# Altium footprint library PcbLib1.PcbLib: 9 footprints
Each footprint in its own frame and in the unit in brackets; x right, y up, seen from the top. Pads: shape width x height; smd on the part's side, far side on the other; paste and mask are expansions set on the pad; w line width, h text height; cw(c..) or ccw(c..) is an arc to the next point about the centre after c.
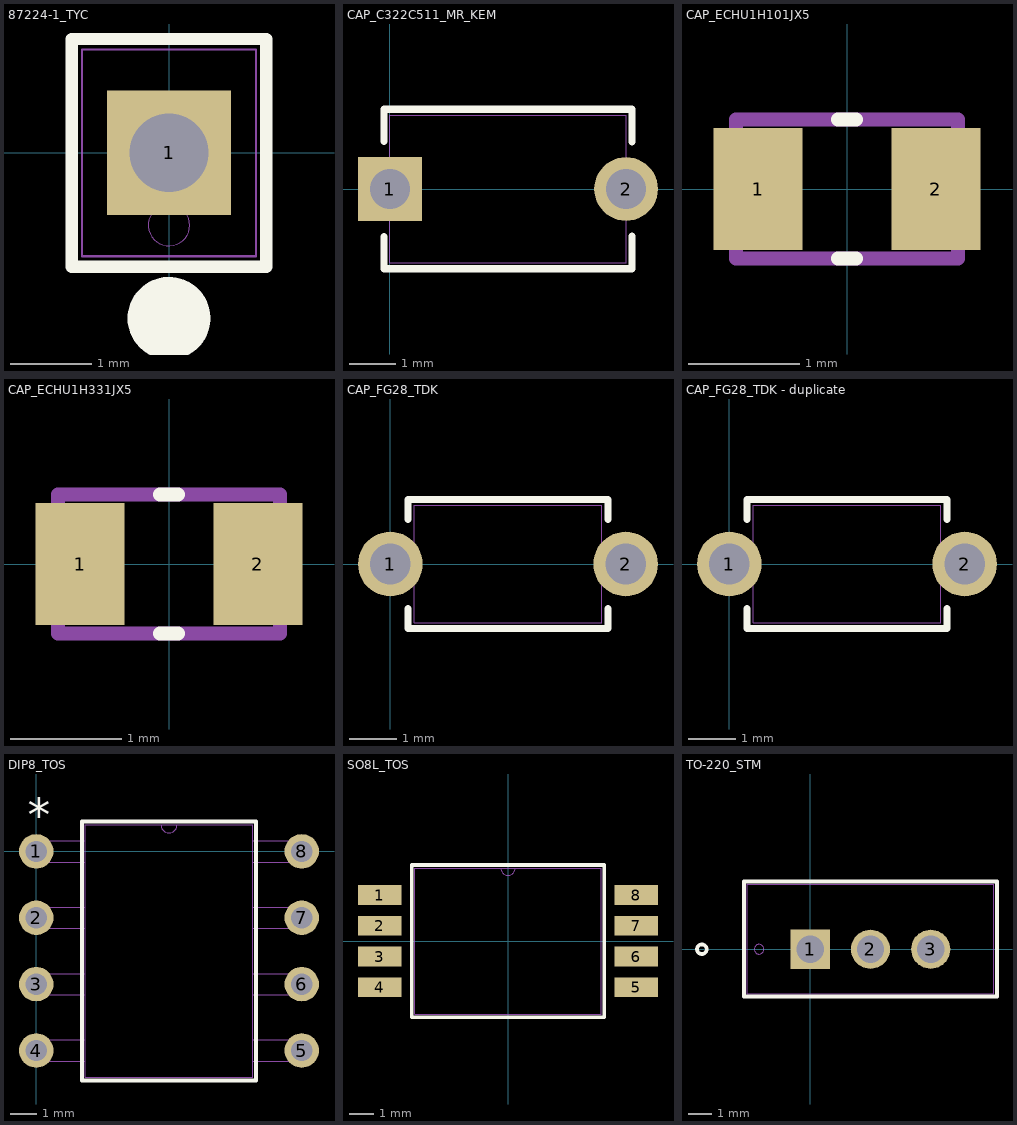
[diagram p0: the footprints below, top view; thin cyan lines are the x and y axes]

## 87224-1_TYC [mil]
pads (1):
  rect 60x60 / inner round 60 / far side rect 60x60 hole 38 paste-30 mask+0: 1(0,0)
Top Overlay:
  circle w20: c0,-80 r10
  lines w6: -47,-55 -47,55 47,55 47,-55 -47,-55
Mechanical 13:
  circle w0: c0,-35 r10
  lines w1: -42,-50 -42,50 42,50 42,-50 -42,-50
3D body "87224-1_TYC.step": height 90, standoff -200, extent -50,-50 50,50

## CAP_C322C511_MR_KEM [mil]
pads (2):
  rect 54x54 / inner round 60 / far side rect 54x54 hole 34 paste-27 mask+0: 1(0,0)
  round 54 / inner round 60 / far side round 54 hole 34 paste-27 mask+0: 2(200,0)
Top Overlay:
  lines w6: -5,-40.1 -5,-67.5 205,-67.5 205,-39.79 ; -5,40.1 -5,67.5 205,67.5 205,39.79
Mechanical 13:
  lines w1: 0,-62.5 0,62.5 200,62.5 200,-62.5 0,-62.5
3D body "C322C111JDG5TA.step": height 189.9, standoff -345.57, extent -10.04,-75.2 210.04,75

## CAP_ECHU1H101JX5 [mm]
height 0.9
pads (2):
  rect 0.8x1.1 smd: 1(-0.8,0) 2(0.8,0)
Top Overlay:
  lines w0.127: -0.08,-0.625 0.08,-0.625 ; -0.08,0.625 0.08,0.625
Mechanical 13:
  lines w0.127: -1,-0.625 1,-0.625 1,0.625 -1,0.625 -1,-0.625
3D body "step_temp.STEP": height 0.9, standoff 0, extent -1,-0.625 1,0.625

## CAP_ECHU1H331JX5 [mm]
pads (2):
  rect 0.8x1.1 smd: 1(-0.8,0) 2(0.8,0)
Top Overlay:
  lines w0.127: -0.08,-0.625 0.08,-0.625 ; -0.08,0.625 0.08,0.625
Mechanical 13:
  lines w0.127: -1,-0.625 -1,0.625 1,0.625 1,-0.625 -1,-0.625
3D body "step_temp.STEP": height 0.9, standoff 0, extent -1,-0.625 1,0.625

## CAP_FG28_TDK [mil]
pads (2):
  round 54 / inner round 60 / far side round 54 hole 34 paste-27 mask+0: 1(0,0) 2(196.85,0)
Top Overlay:
  lines w6: 14.93,-37.22 14.93,-54 181.93,-54 181.93,-37.22 ; 14.93,37.22 14.93,54 181.93,54 181.93,37.22
Mechanical 13:
  lines w1: 19.93,-49 19.93,49 176.93,49 176.93,-49 19.93,-49
3D body "CAP_FG28_TDK.step": height 217.01, standoff -172.01, extent -35.98,-49.02 208.86,49.02

## CAP_FG28_TDK - duplicate [mil]
pads (2):
  round 54 / inner round 60 / far side round 54 hole 34 paste-27 mask+0: 1(0,0) 2(196.85,0)
Top Overlay:
  lines w6: 14.93,-37.22 14.93,-54 181.93,-54 181.93,-37.22 ; 14.93,37.22 14.93,54 181.93,54 181.93,37.22
Mechanical 13:
  lines w1: 19.93,-49 19.93,49 176.93,49 176.93,-49 19.93,-49
3D body "CAP_FG28_TDK.step": height 217.01, standoff -172.01, extent -35.98,-49.02 208.86,49.02

## DIP8_TOS [mil]
pads (8):
  round 52 / inner round 60 / far side round 52 hole 32 paste-26 mask+0: 1(0,0) 2(0,-100) 3(0,-200) 4(0,-300) 5(400,-300) 6(400,-200) 7(400,-100) 8(400,0)
Top Overlay:
  lines w6: 69,-345 331,-345 331,45 69,45 69,-345
  text "*" at -12.5,31 h50
Mechanical 13:
  lines w0: 188,40 ccw(c200,40) 212,40
  lines w1: -16,-316 -16,-284 74,-284 74,-316 -16,-316 ; -16,-216 -16,-184 74,-184 74,-216 -16,-216 ; -16,-116 -16,-84 74,-84 74,-116 -16,-116 ; -16,-16 -16,16 74,16 74,-16 -16,-16 ; 74,-340 326,-340 326,40 74,40 74,-340 ; 326,-316 326,-284 416,-284 416,-316 326,-316 ; 326,-216 326,-184 416,-184 416,-216 326,-216 ; 326,-116 326,-84 416,-84 416,-116 326,-116 ; 326,-16 326,16 416,16 416,-16 326,-16
  text "*" at 71.5,-25 h50
3D body "DIP8_90deg.stp": height 175.08, standoff -98.55, extent 31.21,-340 368.79,40.31

## SO8L_TOS [mil]
pads (8):
  rect 71x32 smd paste+0 mask+0: 1(-208.66,75) 2(-208.66,25) 3(-208.66,-25) 4(-208.66,-75) 5(208.66,-75) 6(208.66,-25) 7(208.66,25) 8(208.66,75)
Top Overlay:
  lines w6: -156.5,-124 156.5,-124 156.5,124 -156.5,124 -156.5,-124
Mechanical 13:
  lines w0: -12,119 ccw(c0,119) 12,119
  lines w1: -151.5,-119 151.5,-119 151.5,119 -151.5,119 -151.5,-119
3D body "SO8L_TOS.step": height 87.01, standoff 0, extent -230.39,-119.02 230.39,119.02

## TO-220_STM [mil]
pads (3):
  rect 65x65 / inner round 60 / far side rect 65x65 hole 45 paste-32.5 mask-32.5: 1(0,0)
  round 65 / inner round 60 / far side round 65 hole 45 paste-32.5 mask-32.5: 2(100,0) 3(200,0)
Top Overlay:
  circle w6: c-180,0 r8
  lines w6: -110,-78.5 -110,112.5 310,112.5 310,-78.5 -110,-78.5
Mechanical 13:
  circle w0: c-85,0 r8
  lines w1: -105,-73.5 -105,107.5 305,107.5 305,-73.5 -105,-73.5
  lines w6: -10,0 10,0 ; 0,-10 0,10
3D body "TO-220_STM.step": height 775.98, standoff -255, extent -105,-73.5 305,107.52